# EAGLE library part HDR-2X5 (library pi-wall-socket)
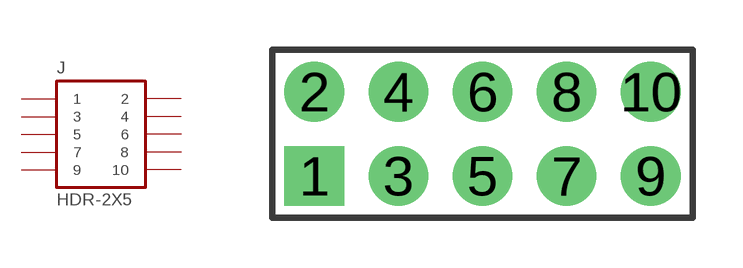
[diagram p0: symbol with the pads of HDR-2X5; footprint HDR-2X5]

Designator prefix J

## HDR-2X5  [HDR-2X5]
1  1
2  2
3  3
4  4
5  5
6  6
7  7
8  8
9  9
10  10

## Footprint HDR-2X5 (pad centres in mm)
2 x 5 pin header, 2.54 mm (TTL serial + CP + reset)
drill 1 pad 1.8 square: 1 -5.08,-1.27
drill 1 pad 1.8: 2 -5.08,1.27; 3 -2.54,-1.27; 4 -2.54,1.27; 5 0,-1.27; 6 0,1.27; 7 2.54,-1.27; 8 2.54,1.27; 9 5.08,-1.27; 10 5.08,1.27